# Altium footprint library Modular_Jack_1Port_8P8C_sink.PcbLib: 1 footprints
Each footprint in its own frame and in the unit in brackets; x right, y up, seen from the top. Pads: shape width x height; smd on the part's side, far side on the other; paste and mask are expansions set on the pad; w line width, h text height; cw(c..) or ccw(c..) is an arc to the next point about the centre after c.
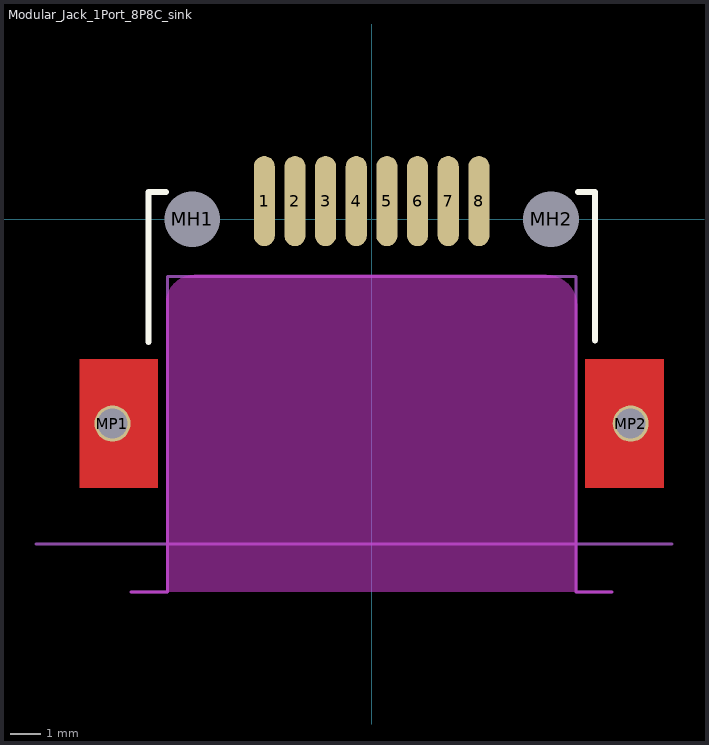
[diagram p0: the footprint, top view; thin cyan lines are the x and y axes]

## Modular_Jack_1Port_8P8C_sink [mm] "Modular Jack 1P, 8p8c, sink type"
height 11.5
pads (12):
  oval 0.7x3 smd: 1(-3.57,0.6) 2(-2.55,0.6) 3(-1.53,0.6) 4(-0.51,0.6) 5(0.51,0.6) 6(1.53,0.6) 7(2.55,0.6) 8(3.57,0.6)
  round 1.5 hole 1.85 unplated: MH1(-5.97,0) MH2(5.97,0)
  round 1.2 hole 1: MP1(-8.62,-6.8) MP2(8.62,-6.8)
Top Layer:
  region: 9.72,-4.65 7.1,-4.65 7.1,-8.95 9.72,-8.95
  rectangle: -9.72,-8.95 -7.1,-4.65
Top Overlay:
  lines w0.2: -7.425,-4.09 -7.425,0.9 -6.84,0.9 ; 6.86,0.9 7.425,0.9 7.425,-4.04
Keep-Out Layer:
  board cut-out: 6.795,-12.4 6.804,-2.895 6.769,-2.635 6.669,-2.393 6.51,-2.185 6.302,-2.026 6.06,-1.926 5.8,-1.891 5.8,-1.9 -5.895,-1.892 -6.13,-1.923 -6.349,-2.014 -6.537,-2.158 -6.681,-2.346 -6.772,-2.565 -6.803,-2.8 -6.795,-2.8 -6.795,-12.4
  lines w0.1: -8,-12.4 -6.795,-12.4 -6.795,-2.8 cw(c-5.886,-2.8) -5.886,-1.891 5.8,-1.891 cw(c5.8,-2.886) 6.795,-2.886 6.795,-12.4 8,-12.4
Mechanical 15:
  lines w0.1: -11.17,-10.8 10,-10.8 ; -8,-12.4 -6.795,-12.4 -6.795,-1.9 6.795,-1.9 6.795,-12.4 8,-12.4
3D body: height 9.02, standoff -2.58, extent -9.075,-12.435 9.063,1.461